# Altium schematic symbol library 按键-开关.SchLib: 27 symbols
Pins are listed as number, name and electrical type; pins without a type are passive.

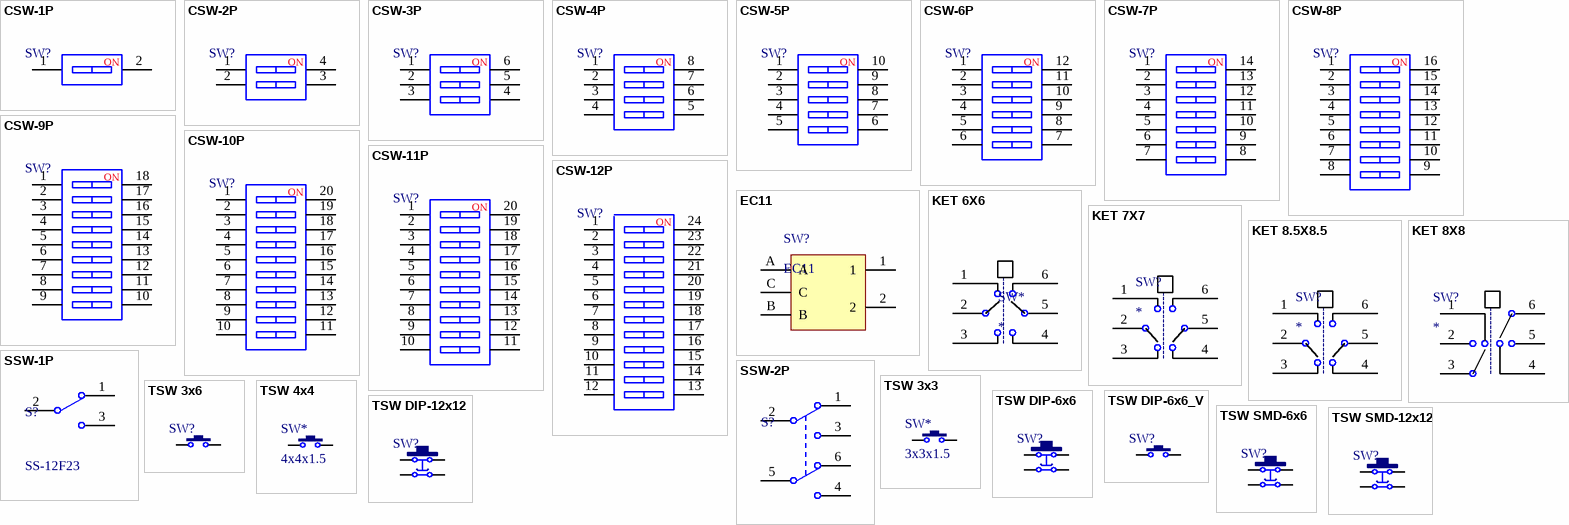
[diagram p0: symbols CSW-1P to TSW SMD-12x12]

## CSW-1P
designator SW?  (value not drawn)
2路编码开关; 版权归属: 源创客; BOM名称: 2路编码开关; 学习资源: www.ooocke.com
footprint CSW DIP-1P (4.1*9.9*7mm)
footprint CSW DIP-1P_G (4.1*9.9*7mm)
pins: 1, 2
text: NO

## CSW-2P
designator SW?  (value not drawn)
2路编码开关; 版权归属: 源创客; BOM名称: 2路编码开关; 学习资源: www.ooocke.com
footprint CSW DIP-2P (6.6*9.9*7mm)
footprint CSW DIP-2P_G (6.6*9.9*7mm)
footprint CSW1.27 SMD-2P (长：4.14mm，宽：5.4mm，高：2.3mm)
pins: 1, 2, 3, 4
text: NO

## CSW-3P
designator SW?  (value not drawn)
3路编码开关; 版权归属: 源创客; BOM名称: 3路编码开关; 学习资源: www.ooocke.com
footprint CSW DIP-3P (9.2*9.9*7mm)
footprint CSW DIP-3P_G (9.2*9.9*7mm)
footprint CSW1.27 SMD-3P (长：5.41mm，宽：5.4mm，高：2.3mm)
pins: 1, 2, 3, 4, 5, 6
text: NO

## CSW-4P
designator SW?  (value not drawn)
4路编码开关; 版权归属: 源创客; BOM名称: 4路编码开关; 学习资源: www.ooocke.com
footprint CSW DIP-4P (11.7*9.9*7mm)
footprint CSW DIP-4P_G (11.7*9.9*7mm)
footprint CSW1.27 SMD-4P (长：6.68mm，宽：5.4mm，高：2.3mm)
pins: 1, 2, 3, 4, 5, 6, 7, 8
text: NO

## CSW-5P
designator SW?  (value not drawn)
5路编码开关; 版权归属: 源创客; BOM名称: 5路编码开关; 学习资源: www.ooocke.com
footprint CSW DIP-5P (14.2*9.9*7mm)
footprint CSW DIP-5P_G (14.2*9.9*7mm)
footprint CSW1.27 SMD-5P (长：7.95mm，宽：5.4mm，高：2.3mm)
pins: 1, 2, 3, 4, 5, 6, 7, 8, 9, 10
text: NO

## CSW-6P
designator SW?  (value not drawn)
6路编码开关; 版权归属: 源创客; BOM名称: 6路编码开关; 学习资源: www.ooocke.com
footprint CSW DIP-6P (16.8*9.9*7mm)
footprint CSW DIP-6P_G (16.8*9.9*7mm)
footprint CSW1.27 SMD-6P (长：9.22mm，宽：5.4mm，高：2.3mm)
pins: 1, 2, 3, 4, 5, 6, 7, 8, 9, 10, 11, 12
text: NO

## CSW-7P
designator SW?  (value not drawn)
7路编码开关; 版权归属: 源创客; BOM名称: 7路编码开关; 学习资源: www.ooocke.com
footprint CSW DIP-7P (19.3*9.9*7mm)
footprint CSW DIP-7P_G (19.3*9.9*7mm)
pins: 1, 2, 3, 4, 5, 6, 7, 8, 9, 10, 11, 12, 13, 14
text: NO

## CSW-8P
designator SW?  (value not drawn)
8路编码开关; 版权归属: 源创客; BOM名称: 8路编码开关; 学习资源: www.ooocke.com
footprint CSW DIP-8P (21.9*9.9*7mm)
footprint CSW DIP-8P_G (21.9*9.9*7mm)
footprint CSW1.27 SMD-8P (长：11.76mm，宽：5.4mm，高：2.3mm)
pins: 1, 2, 3, 4, 5, 6, 7, 8, 9, 10, 11, 12, 13, 14, 15, 16
text: NO

## CSW-9P
designator SW?  (value not drawn)
9路编码开关; 版权归属: 源创客; BOM名称: 9路编码开关; 学习资源: www.ooocke.com
footprint CSW DIP-9P (21.4*9.9*7mm)
footprint CSW DIP-9P_G (21.4*9.9*7mm)
pins: 1, 2, 3, 4, 5, 6, 7, 8, 9, 10, 11, 12, 13, 14, 15, 16, 17, 18
text: NO

## CSW-10P
designator SW?  (value not drawn)
10路编码开关; 版权归属: 源创客; BOM名称: 10路编码开关; 学习资源: www.ooocke.com
footprint CSW DIP-10P (27*9.9*7mm)
footprint CSW DIP-10P_G (27*9.9*7mm)
footprint CSW1.27 SMD-10P (长：14.3mm，宽：5.4mm，高：2.3mm)
pins: 1, 2, 3, 4, 5, 6, 7, 8, 9, 10, 11, 12, 13, 14, 15, 16, 17, 18, 19, 20
text: NO

## CSW-11P
designator SW?  (value not drawn)
11路编码开关; 版权归属: 源创客; BOM名称: 11路编码开关; 学习资源: www.ooocke.com
footprint CSW DIP-11P (29.5*9.9*7mm)
footprint CSW DIP-11P_G (29.5*9.9*7mm)
pins: 1, 2, 3, 4, 5, 6, 7, 8, 9, 10, 11, 12, 13, 14, 15, 16, 17, 18, 19, 20
text: NO

## CSW-12P
designator SW?  (value not drawn)
12路编码开关; 版权归属: 源创客; BOM名称: 12路编码开关; 学习资源: www.ooocke.com
footprint CSW DIP-12P (32.1*9.9*7mm)
footprint CSW DIP-12P_G (32.1*9.9*7mm)
pins: 1, 2, 3, 4, 5, 6, 7, 8, 9, 10, 11, 12, 13, 14, 15, 16, 17, 18, 19, 20, 21, 22, 23, 24
text: NO

## EC11
designator SW?
数字开关编码器; BOM名称: 数字编码开关; 版权归属: 源创客; 学习资源: www.ooocke.com
footprint EC11 (数字开关编码器)
pins: 1, 2, A, B, C

## KET 6X6
designator SW*
6*6开关
footprint KFT DIP-6X6 (6*6mm开关)
pins: 1, 2, 3, 4, 5, 6
text: ---------------

## KET 7X7
designator SW?
7*7开关; 版权归属: 源创客; BOM名称: 7*7开关; 学习资源: www.ooocke.com
footprint KFT DIP-7X7 (自锁开关，规格：7*7mm)
pins: 1, 2, 3, 4, 5, 6
text: ---------------

## KET 8.5X8.5
designator SW?
8.5*8.5开关; 版权归属: 源创客; BOM名称: 8.5*8.5开关; 学习资源: www.ooocke.com
footprint KFT DIP-8.5X8.5 (8.5*8.5mm开关)
pins: 1, 2, 3, 4, 5, 6
text: ---------------

## KET 8X8
designator SW?
8*8开关; 版权归属: 源创客; BOM名称: 8*8开关; 学习资源: www.ooocke.com
footprint KFT DIP-8X8 (自锁开关，规格：8*8mm)
pins: 1, 2, 3, 4, 5, 6
text: ---------------

## SSW-1P
designator S?, comment SS-12F23
1路波动开关; BOM名称: 波动开关; 版权归属: 源创客; 学习资源: www.ooocke.com
footprint SS-12F23
footprint SS-12D10
footprint MSK-12C01-07 (6.7*2.8*1.5mm(长宽高）)
pins: 1, 2, 3

## SSW-2P
designator S?, comment SK-22D02  (value not drawn)
2路波动开关; BOM名称: 波动开关; 版权归属: 源创客; 学习资源: www.ooocke.com
footprint SK-22D02 (10.4x6.1x4.2mm(长宽高)，脚距：2mm)
footprint SS-22H07-G2 (柄长2mm，12.7x7x4.7mm(长宽高)，脚距：4mm)
footprint SS-22H07-G3 (柄长3mm，12.7x7x4.7mm(长宽高)，脚距：4mm)
footprint SS-22H07-G4 (柄长4mm，12.7x7x4.7mm(长宽高)，脚距：4mm)
footprint SS-22H07-G5 (柄长5mm，12.7x7x4.7mm(长宽高)，脚距：4mm)
footprint SS-22H07-G6 (柄长6mm，12.7x7x4.7mm(长宽高)，脚距：4mm)
footprint SS-22H07-G7 (柄长7mm，12.7x7x4.7mm(长宽高)，脚距：4mm)
footprint SS-22H07-G8 (柄长8mm，12.7x7x4.7mm(长宽高)，脚距：4mm)
footprint SS-22H07-G9 (柄长9mm，12.7x7x4.7mm(长宽高)，脚距：4mm)
pins: 1, 2, 3, 4, 5, 6

## TSW 3x3
designator SW*, comment 3x3x1.5
4x4轻触开关
pins: 1, 2

## TSW 3x6
designator SW?, comment 3x6x5  (value not drawn)
3x6轻触开关; 版权归属: 源创客; BOM名称: 3x6轻触开关; 学习资源: www.ooocke.com
footprint TSW SMD-3*6*2.5 (3*6*2.5mm)
footprint TSW DIP-3*6*5_V (侧按轻触开关 3*6*5mm)
footprint TSW DIP-3*6*4.3 (3*6*4.3mm)
footprint TSW DIP-3*6*4.3_V (侧按轻触开关 3*6*4.3mm)
footprint TSW DIP-3*6*5 (3*6*5mm)
footprint TSW SMD-3*6*4.3 (3*6*4.3mm)
footprint TSW SMD-3*6*5 (3*6*5mm)
pins: 1, 2

## TSW 4x4
designator SW*, comment 4x4x1.5
4x4轻触开关
footprint TSW SMD-4*4*1.5 (轻触开关，长宽高：4*4*1.5mm)
pins: 1, 2

## TSW DIP-6x6
designator SW?, comment 6x6x5  (value not drawn)
直插6x6轻触开关; 版权归属: 源创客; BOM名称: 直插6x6轻触开关; 学习资源: www.ooocke.com
footprint TSW DIP-6*6*6 (6*6*6mm)
footprint TSW DIP-6*6*4.3 (6*6*4.3mm)
footprint TSW DIP-6*6*9 (6*6*9mm)
footprint TSW DIP-6*6*5 (6*6*5mm)
footprint TSW DIP-6*6*7 (6*6*7mm)
footprint TSW DIP-6*6*8 (6*6*8mm)
footprint TSW DIP-6*6*10 (6*6*10mm)
footprint TSW DIP-6*6*11 (6*6*11mm)
footprint TSW DIP-6*6*12 (6*6*12mm)
footprint TSW DIP-6*6*13 (6*6*13mm)
footprint TSW DIP-6*6*14 (6*6*14mm)
footprint TSW DIP-6*6*15 (6*6*15mm)
pins: 1, 2, 3, 4

## TSW DIP-6x6_V
designator SW?, comment 6x6x5  (value not drawn)
侧按直插6x6轻触开关; 版权归属: 源创客; BOM名称: 直插6x6轻触开关; 学习资源: www.ooocke.com
footprint TSW DIP-6*6*6_V (侧按轻触开关 6*6*6mm)
footprint TSW DIP-6*6*4.3_V (侧按轻触开关 6*6*4.3mm)
footprint TSW DIP-6*6*9_V (侧按轻触开关 6*6*9mm)
footprint TSW DIP-6*6*5_V (侧按轻触开关 6*6*5mm)
footprint TSW DIP-6*6*7_V (侧按轻触开关 6*6*7mm)
footprint TSW DIP-6*6*8_V (侧按轻触开关 6*6*8mm)
footprint TSW DIP-6*6*10_V (侧按轻触开关 6*6*10mm)
footprint TSW DIP-6*6*11_V (侧按轻触开关 6*6*11mm)
footprint TSW DIP-6*6*12_V (侧按轻触开关 6*6*12mm)
pins: 1, 2

## TSW DIP-12x12
designator SW?, comment 12x12x5  (value not drawn)
直插12x12轻触开关; 版权归属: 源创客; BOM名称: 直插12x12轻触开关; 学习资源: www.ooocke.com
footprint TSW DIP-12*12*4.3 (12*12*4.3mm)
footprint TSW DIP-12*12*5 (12*12*5mm)
footprint TSW DIP-12*12*6 (12*12*6mm)
footprint TSW DIP-12*12*7 (12*12*7mm)
footprint TSW DIP-12*12*8 (12*12*8mm)
footprint TSW DIP-12*12*9 (12*12*9mm)
footprint TSW DIP-12*12*10 (12*12*10mm)
footprint TSW DIP-12*12*11 (12*12*11mm)
footprint TSW DIP-12*12*12 (12*12*12mm)
footprint TSW DIP-12*12*13 (12*12*13mm)
pins: 1, 2, 3, 4

## TSW SMD-6x6
designator SW?, comment 6x6x5  (value not drawn)
贴片6x6轻触开关; 版权归属: 源创客; BOM名称: 贴片6x6轻触开关; 学习资源: www.ooocke.com
footprint TSW SMD-6*6*4.3 (6*6*4.3mm)
footprint TSW SMD-6*6*5 (6*6*5mm)
footprint TSW SMD-6*6*6 (6*6*6mm)
footprint TSW SMD-6*6*7 (6*6*7mm)
footprint TSW SMD-6*6*8 (6*6*8mm)
footprint TSW SMD-6*6*9 (6*6*9mm)
footprint TSW SMD-6*6*10 (6*6*10mm)
footprint TSW SMD-6*6*12 (6*6*12mm)
footprint TSW SMD-6*6*13 (6*6*13mm)
footprint TSW SMD-6*6*14 (6*6*14mm)
footprint TSW SMD-6*6*15 (6*6*15mm)
pins: 1, 2, 3, 4

## TSW SMD-12x12
designator SW?, comment 12x12x5  (value not drawn)
贴片12x12轻触开关; 版权归属: 源创客; BOM名称: 贴片12x12轻触开关; 学习资源: www.ooocke.com
footprint TSW SMD-12*12*4.3 (12*12*4.3mm)
footprint TSW SMD-12*12*5 (12*12*5mm)
footprint TSW SMD-12*12*6 (12*12*6mm)
footprint TSW SMD-12*12*7 (12*12*7mm)
footprint TSW SMD-12*12*8 (12*12*8mm)
footprint TSW SMD-12*12*9 (12*12*9mm)
footprint TSW SMD-12*12*10 (12*12*10mm)
footprint TSW SMD-12*12*11 (12*12*11mm)
footprint TSW SMD-12*12*12 (12*12*12mm)
footprint TSW SMD-12*12*13 (12*12*13mm)
pins: 1, 2, 3, 4